# EAGLE library part PIC16F15386 (library innove-microcontrollers)
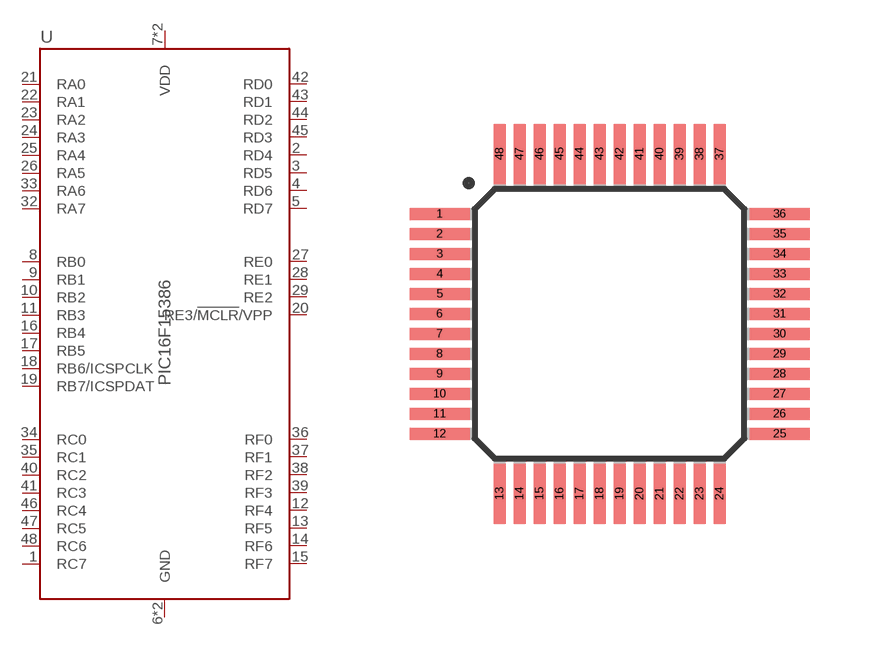
[diagram p1: symbol with the pads of TQFP48; footprint TQFP48]

Designator prefix U

## PIC16F15386  [TQFP48]
1  RC7
2  RD4
3  RD5
4  RD6
5  RD7
6  GND  pwr
7  VDD  pwr
8  RB0
9  RB1
10  RB2
11  RB3  in
12  RF4
13  RF5
14  RF6
15  RF7
16  RB4
17  RB5
18  RB6/ICSPCLK
19  RB7/ICSPDAT
20  RE3/!MCLR!/VPP
21  RA0
22  RA1
23  RA2
24  RA3  in
25  RA4
26  RA5
27  RE0
28  RE1
29  RE2
30  VDD  pwr
31  GND  pwr
32  RA7
33  RA6
34  RC0
35  RC1
36  RF0
37  RF1
38  RF2
39  RF3
40  RC2
41  RC3  in
42  RD0
43  RD1
44  RD2
45  RD3
46  RC4
47  RC5
48  RC6

## Footprint TQFP48 (pad centres in mm)
Thin Quad Flat Pack
smd 1.5 x 0.3: 1 -4.25,2.75; 2 -4.25,2.25; 3 -4.25,1.75; 4 -4.25,1.25; 5 -4.25,0.75; 6 -4.25,0.25; 7 -4.25,-0.25; 8 -4.25,-0.75; 9 -4.25,-1.25; 10 -4.25,-1.75; 11 -4.25,-2.25; 12 -4.25,-2.75; 25 4.25,-2.75; 26 4.25,-2.25; 27 4.25,-1.75; 28 4.25,-1.25; 29 4.25,-0.75; 30 4.25,-0.25; 31 4.25,0.25; 32 4.25,0.75; 33 4.25,1.25; 34 4.25,1.75; 35 4.25,2.25; 36 4.25,2.75
smd 0.3 x 1.5: 13 -2.75,-4.25; 14 -2.25,-4.25; 15 -1.75,-4.25; 16 -1.25,-4.25; 17 -0.75,-4.25; 18 -0.25,-4.25; 19 0.25,-4.25; 20 0.75,-4.25; 21 1.25,-4.25; 22 1.75,-4.25; 23 2.25,-4.25; 24 2.75,-4.25; 37 2.75,4.25; 38 2.25,4.25; 39 1.75,4.25; 40 1.25,4.25; 41 0.75,4.25; 42 0.25,4.25; 43 -0.25,4.25; 44 -0.75,4.25; 45 -1.25,4.25; 46 -1.75,4.25; 47 -2.25,4.25; 48 -2.75,4.25